# Altium footprint library UserPcbLib.PcbLib: 107 footprints (part 2 of 7)
Each footprint in its own frame and in the unit in brackets; x right, y up, seen from the top. Pads: shape width x height; smd on the part's side, far side on the other; paste and mask are expansions set on the pad; w line width, h text height; cw(c..) or ccw(c..) is an arc to the next point about the centre after c.
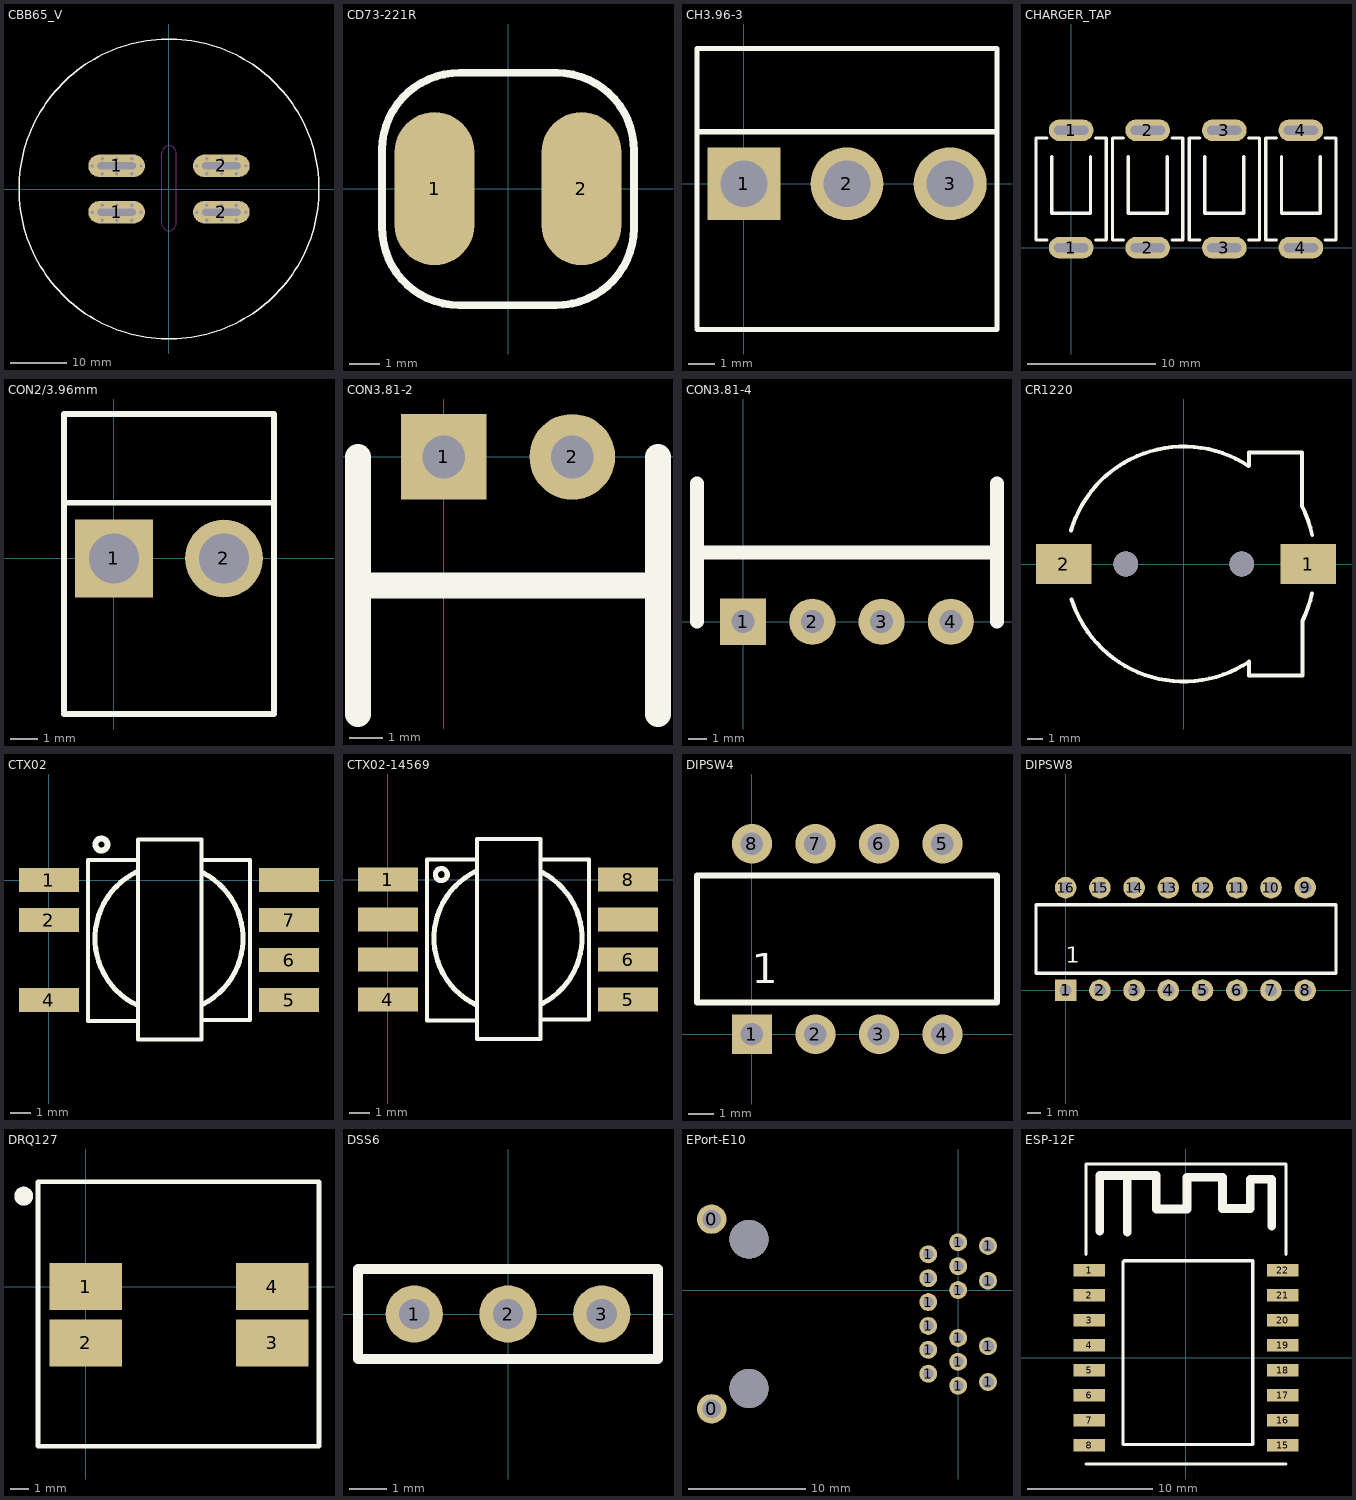
[diagram p1: the footprints below, top view; thin cyan lines are the x and y axes]

## CBB65_V [mm] "Faratronic Film Cap 25uF 450VAC"
height 80.2
pads (4):
  oval 10x4 hole 1.2 slot 6.8 at 0 deg: 1(-9.25,-4.1) 1(-9.25,4.1) 2(9.25,-4.1) 2(9.25,4.1)
via -13.589,4.064 diameter 1 hole 0.6
via -4.953,4.064 diameter 1 hole 0.6
via -6.604,2.667 diameter 1 hole 0.6
via -9.207,2.667 diameter 1 hole 0.6
via -11.811,2.667 diameter 1 hole 0.6
via -6.604,5.334 diameter 1 hole 0.6
via -9.207,5.334 diameter 1 hole 0.6
via -11.811,5.334 diameter 1 hole 0.6
via -11.811,-2.866 diameter 1 hole 0.6
via -9.207,-2.866 diameter 1 hole 0.6
via -6.604,-2.866 diameter 1 hole 0.6
via -11.811,-5.533 diameter 1 hole 0.6
via -9.207,-5.533 diameter 1 hole 0.6
via -6.604,-5.533 diameter 1 hole 0.6
via -4.953,-4.136 diameter 1 hole 0.6
via -13.589,-4.136 diameter 1 hole 0.6
via 6.689,5.334 diameter 1 hole 0.6
via 9.292,5.334 diameter 1 hole 0.6
via 11.896,5.334 diameter 1 hole 0.6
via 6.689,2.667 diameter 1 hole 0.6
via 9.292,2.667 diameter 1 hole 0.6
via 11.896,2.667 diameter 1 hole 0.6
via 13.547,4.064 diameter 1 hole 0.6
via 4.911,4.064 diameter 1 hole 0.6
via 6.689,-2.866 diameter 1 hole 0.6
via 9.292,-2.866 diameter 1 hole 0.6
via 11.896,-2.866 diameter 1 hole 0.6
via 6.689,-5.533 diameter 1 hole 0.6
via 9.292,-5.533 diameter 1 hole 0.6
via 11.896,-5.533 diameter 1 hole 0.6
via 13.547,-4.136 diameter 1 hole 0.6
via 4.911,-4.136 diameter 1 hole 0.6
Top Overlay:
  circle w0.254: c0,0 r26.5
Keep-Out Layer:
  lines w0.2: -1.27,-6.096 ccw(c0,-6.096) 1.27,-6.096 1.27,6.35 ccw(c0,6.35) -1.27,6.35 -1.27,-6.096

## CD73-221R [mm] "SMD inductor"
pads (2):
  rrect100% 2.6x5 smd: 1(-2.4,0) 2(2.4,0)
Top Overlay:
  lines w0.254: -4.115,-1.258 -4.115,1.27 cw(c-1.582,1.251) -1.564,3.784 1.599,3.784 ; -4.114,-1.259 ccw(c-1.581,-1.277) -1.6,-3.81 1.563,-3.81 ; 1.564,-3.809 ccw(c1.582,-1.276) 4.115,-1.295 4.115,1.233 ; 1.6,3.785 cw(c1.581,1.252) 4.114,1.234
3D body: height 5, standoff 0, extent -3.926,-3.604 3.932,3.602

## CH3.96-3 [mm]
pads (3):
  rect 2.8x2.8 hole 1.8: 1(0,0)
  round 2.8 hole 1.8: 2(3.96,0) 3(7.92,0)
Top Overlay:
  lines w0.2: -1.8,-5.6 9.72,-5.6 9.72,5.2 -1.8,5.2 -1.8,-5.5 ; -1.8,2 9.703,2
3D body: height 14, standoff 0.1, extent -1.803,-5.613 9.754,5.258

## CHARGER_TAP [mm] "IRX charger copper tap 1x4"
pads (8):
  oval 3.5x1.7 hole 0.7 slot 2.7 at 0 deg: 1(0,0) 1(0,9.2) 2(6,0) 2(6,9.2) 3(12,0) 3(12,9.2) 4(18,0) 4(18,9.2)
Top Overlay:
  lines w0.254: -1.905,0.6 -2.75,0.6 -2.75,8.6 -1.905,8.6 ; -1.524,7.14 -1.524,2.695 1.524,2.695 1.524,7.14 ; 1.905,0.6 2.75,0.6 2.75,8.6 1.905,8.6 ; 4.095,0.6 3.25,0.6 3.25,8.6 4.095,8.6 ; 4.476,7.14 4.476,2.695 7.524,2.695 7.524,7.14 ; 7.905,0.6 8.75,0.6 8.75,8.6 7.905,8.6 ; 10.095,0.6 9.25,0.6 9.25,8.6 10.095,8.6 ; 10.476,7.14 10.476,2.695 13.524,2.695 13.524,7.14 ; 13.905,0.6 14.75,0.6 14.75,8.6 13.905,8.6 ; 16.095,0.6 15.25,0.6 15.25,8.6 16.095,8.6 ; 16.476,7.14 16.476,2.695 19.524,2.695 19.524,7.14 ; 19.905,0.6 20.75,0.6 20.75,8.6 19.905,8.6

## CON2/3.96mm [mm]
pads (2):
  rect 2.8x2.8 hole 1.8: 1(0,0)
  round 2.8 hole 1.8: 2(3.96,0)
Top Overlay:
  lines w0.2: -1.8,-5.6 5.76,-5.6 ; -1.8,-5.5 -1.8,5.2 5.76,5.2 5.76,-5.5 ; -1.8,2 5.76,2

## CON3.81-2 [mm]
pads (2):
  rect 2.54x2.54 hole 1.27: 1(0,0)
  round 2.54 hole 1.27: 2(3.81,0)
Top Overlay:
  lines w0.762: -2.54,-7.62 -2.54,0 ; -2.54,-3.81 6.35,-3.81 ; 6.35,-7.62 6.35,0

## CON3.81-4 [mm]
pads (4):
  rect 2.54x2.54 hole 1.27: 1(0,0)
  round 2.54 hole 1.27: 2(3.81,0) 3(7.62,0) 4(11.43,0)
Top Overlay:
  lines w0.762: -2.54,0 -2.54,7.62 ; -2.54,3.81 13.97,3.81 ; 13.97,0 13.97,7.62

## CR1220 [mm] "CR1220 socket holder"
pads (2):
  rect 3.6x2.6 smd: 1(8.05,0) 2(-7.75,0)
via -3.75,0 diameter 1.6 hole 1.6
via 3.75,0 diameter 1.6 hole 1.6
Top Overlay:
  lines w0.254: -7.284,2.168 cw(c0,0) 4.206,6.33 ; -7.247,-2.29 ccw(c0,0) 4.23,-6.314 ; 4.228,-6.311 4.228,-7.2 7.687,-7.2 ; 4.228,6.364 4.228,7.2 7.64,7.2 ; 7.64,7.18 7.64,3.769 cw(c0,0) 8.314,1.859 ; 7.687,-7.159 7.687,-3.674 ccw(c0,0) 8.306,-1.897
3D body: height 4, standoff 0, extent -7.239,-7.442 8.202,7.528

## CTX02 [mm]
pads (7):
  rect 3x1.2 smd: 1(0,0) 2(0,-2) 4(0,-6) 5(12,-6) 6(12,-4) 7(12,-2) ""(12,0)
Top Overlay:
  circle w0.3: c2.621,1.778 r0.3
  lines w0.2: 4.445,-7.034 1.954,-7.034 1.954,1 4.445,1 ; 4.445,2.032 4.445,-7.968 7.62,-7.968 7.62,2.032 4.478,2.032 ; 7.62,-7 10.046,-7 10.046,1 7.62,1
  lines w0.254: 4.399,0.416 ccw(c6,-2.92) 4.424,-6.268 ; 7.707,-6.203 ccw(c6,-2.92) 7.707,0.363

## CTX02-14569 [mm]
pads (8):
  rect 3x1.2 smd: 1(0,0) 4(0,-6) 5(12,-6) 6(12,-4) 8(12,0) ""(0,-4) ""(0,-2) ""(12,-2)
Top Overlay:
  circle w0.254: c2.667,0.254 r0.3
  lines w0.2: 4.445,-7.034 1.954,-7.034 1.954,1 4.445,1 ; 4.445,2.032 4.445,-7.968 7.62,-7.968 7.62,2.032 4.478,2.032 ; 7.62,-7 10.046,-7 10.046,1 7.62,1
  lines w0.254: 4.399,0.416 ccw(c6,-2.92) 4.424,-6.268 ; 7.707,-6.203 ccw(c6,-2.92) 7.707,0.363

## DIPSW4 [mm]
pads (8):
  rect 1.6x1.6 hole 0.9: 1(0,0)
  round 1.6 hole 0.9: 2(2.54,0) 3(5.08,0) 4(7.62,0) 5(7.62,7.62) 6(5.08,7.62) 7(2.54,7.62) 8(0,7.62)
Top Overlay:
  lines w0.254: -2.2,1.27 9.8,1.27 9.8,6.35 -2.2,6.35 -2.2,1.27
  text "1" at 0,2.032 h1.2

## DIPSW8 [mm]
pads (16):
  rect 1.6x1.6 hole 0.9: 1(0,0)
  round 1.6 hole 0.9: 2(2.54,0) 3(5.08,0) 4(7.62,0) 5(10.16,0) 6(12.7,0) 7(15.24,0) 8(17.78,0) 9(17.78,7.62) 10(15.24,7.62) 11(12.7,7.62) 12(10.16,7.62) 13(7.62,7.62) 14(5.08,7.62) 15(2.54,7.62) 16(0,7.62)
Top Overlay:
  lines w0.254: -2.2,1.27 20.066,1.27 20.066,6.35 -2.2,6.35 -2.2,1.27
  text "1" at 0,2.032 h1.2
3D body: height 6.9, standoff -3.2, extent -2.009,-1.321 19.891,8.839

## DRQ127 [mm] "Dual inductor"
height 8.3
pads (4):
  rect 3.85x2.5 smd: 1(0,0) 2(0,-3) 3(9.95,-3) 4(9.95,0)
Top Overlay:
  circle w0.5: c-3.302,4.826 r0.254
  lines w0.254: -2.54,-8.509 12.446,-8.509 12.446,5.588 -2.54,5.588 -2.54,-8.509
3D body: height 8.3, standoff 0, extent -1.587,-8.001 11.493,5.08

## DSS6 [mil] "Murata EMI supression filter"
pads (3):
  round 60 hole 31.5: 1(-98.43,0) 2(0,0) 3(98.43,0)
Top Overlay:
  lines w10: -157.48,-47.24 157.48,-47.24 157.48,47.24 -157.48,47.24 -157.48,-47.24
3D body: height 275.59, standoff 3.94, extent -157,-47 157,47

## EPort-E10 [mm]
pads (18):
  round 2.5 hole 1.57: 0(-20.96,-10.1) 0(-20.96,6.03)
  round 1.524 hole 0.89: 1(-2.54,-7.11) 1(-2.54,-5.08) 1(-2.54,-3.05) 1(-2.54,-1.02) 1(-2.54,1.01) 1(-2.54,3.04) 1(0,-8.13) 1(0,-6.1) 1(0,-4.07) 1(0,0) 1(0,2.03) 1(0,4.06)
  round 1.53 hole 1.03: 1(2.54,-7.814) 1(2.54,-4.775) 1(2.54,0.787) 1(2.54,3.759)
via -17.78,4.32 diameter 3.3 hole 3.3
via -17.78,-8.38 diameter 3.3 hole 3.3

## ESP-12F [mm] "Ai-Thinker Wi-Fi module"
pads (16):
  rect 2.5x1 smd: 1(-7.75,7) 2(-7.75,5) 3(-7.75,3) 4(-7.75,1) 5(-7.75,-1) 6(-7.75,-3) 7(-7.75,-5) 8(-7.75,-7) 15(7.75,-7) 16(7.75,-5) 17(7.75,-3) 18(7.75,-1) 19(7.75,1) 20(7.75,3) 21(7.75,5) 22(7.75,7)
Top Overlay:
  lines w0.254: -8,-8.5 8,-8.5 ; -8,8.264 -8,15.5 8,15.5 8,8.264 ; -5.028,-6.951 5.335,-6.951 5.335,7.756 -4.952,7.756 -5.028,7.68 -5.028,-6.951
  lines w0.7: -6.908,10.144 -6.908,14.589 -2.387,14.589 -2.387,11.896 0.077,11.896 0.077,14.436 2.922,14.436 2.922,11.947 5.132,11.947 5.132,14.284 6.859,14.284 6.859,10.525 ; -4.698,10.042 -4.698,14.462
3D body: height 2, standoff 0, extent -8.052,-8.534 8.026,15.494